# EAGLE library part MAX3421E (library Simplex-ICs)
MAX3421E USB Periperal/Host Controller
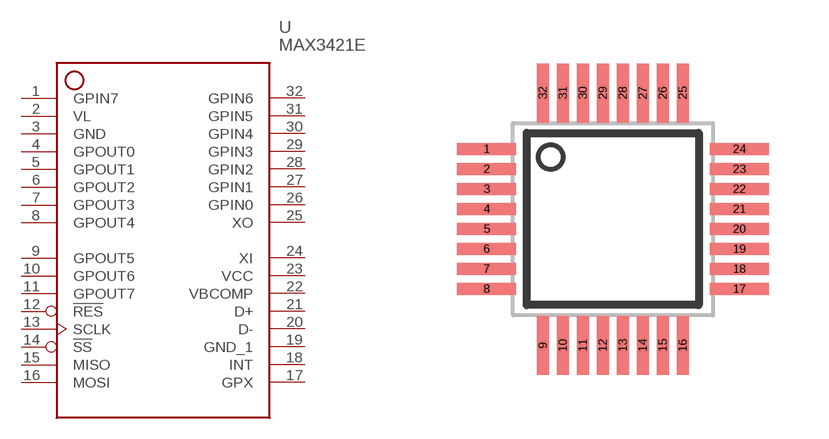
[diagram p12: symbol with the pads of TQFP32; footprint TQFP32]

Designator prefix -

## MAX3421E  [TQFP32]
1  GPIN7  in
2  VL  in
3  GND
4  GPOUT0  out
5  GPOUT1  out
6  GPOUT2  out
7  GPOUT3  out
8  GPOUT4  out
9  GPOUT5  out
10  GPOUT6  out
11  GPOUT7  out
12  !RES  in
13  SCLK  in
14  !SS  in
15  MISO  out
16  MOSI
17  GPX  out
18  INT  out
19  GND_1
20  D-
21  D+
22  VBCOMP  in
23  VCC
24  XI  in
25  XO  out
26  GPIN0  in
27  GPIN1  in
28  GPIN2  in
29  GPIN3  in
30  GPIN4  in
31  GPIN5  in
32  GPIN6  in

## Footprint TQFP32 (pad centres in mm)
TQFP 32 5x5 mm
smd 1.475 x 0.3: 1 0,0; 2 0,-0.5; 3 0,-1; 4 0,-1.5; 5 0,-2; 6 0,-2.5; 7 0,-3; 8 0,-3.5; 17 6.32,-3.5; 18 6.32,-3; 19 6.32,-2.5; 20 6.32,-2; 21 6.32,-1.5; 22 6.32,-1; 23 6.32,-0.5; 24 6.32,0
smd 0.3 x 1.475: 9 1.41,-4.91; 10 1.91,-4.91; 11 2.41,-4.91; 12 2.91,-4.91; 13 3.41,-4.91; 14 3.91,-4.91; 15 4.41,-4.91; 16 4.91,-4.91; 25 4.91,1.41; 26 4.41,1.41; 27 3.91,1.41; 28 3.41,1.41; 29 2.91,1.41; 30 2.41,1.41; 31 1.91,1.41; 32 1.41,1.41